# Altium footprint library SMD-Packages.PcbLib: 26 footprints (part 1 of 2)
Each footprint in its own frame and in the unit in brackets; x right, y up, seen from the top. Pads: shape width x height; smd on the part's side, far side on the other; paste and mask are expansions set on the pad; w line width, h text height; cw(c..) or ccw(c..) is an arc to the next point about the centre after c.
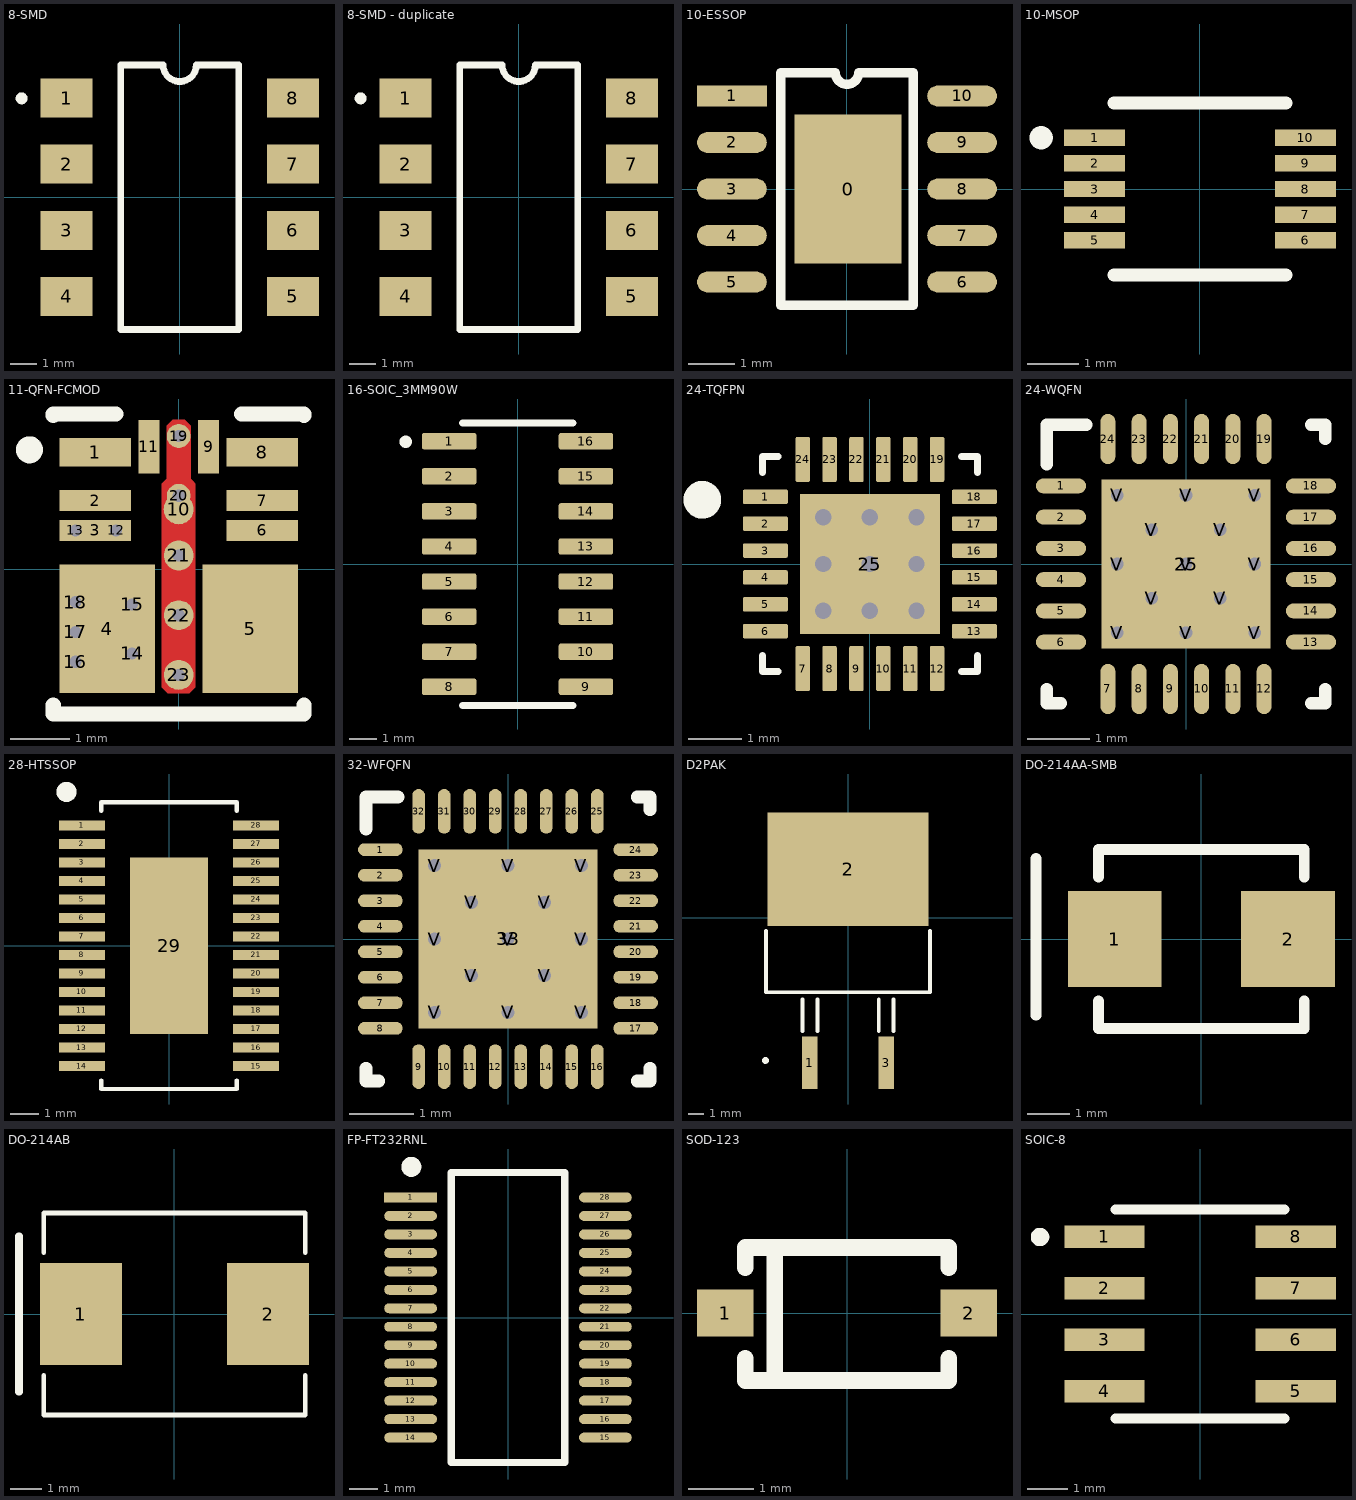
[diagram p0: the footprints below, top view; thin cyan lines are the x and y axes]

## 8-SMD [mm]
pads (8):
  rect 2x1.5 smd: 1(-4.35,3.81) 2(-4.35,1.27) 3(-4.35,-1.27) 4(-4.35,-3.81) 5(4.35,-3.81) 6(4.35,-1.27) 7(4.35,1.27) 8(4.35,3.81)
Top Overlay:
  circle w0.254: c-6.075,3.8 r0.1
  lines w0.254: -2.265,-5.08 -2.265,5.08 -0.635,5.08 ccw(c0,5.08) 0.635,5.08 2.265,5.08 2.265,-5.08 -2.265,-5.08
3D body "SMD DIP 8 (300) Avago.STEP": height 4.2, standoff 0, extent -4.825,-4.825 4.825,4.825

## 8-SMD - duplicate [mm]
pads (8):
  rect 2x1.5 smd: 1(-4.35,3.81) 2(-4.35,1.27) 3(-4.35,-1.27) 4(-4.35,-3.81) 5(4.35,-3.81) 6(4.35,-1.27) 7(4.35,1.27) 8(4.35,3.81)
Top Overlay:
  circle w0.254: c-6.075,3.8 r0.1
  lines w0.254: -2.265,-5.08 2.265,-5.08 2.265,5.08 0.635,5.08 cw(c0,5.08) -0.635,5.08 -2.265,5.08 -2.265,-5.08
3D body "SMD DIP 8 (300) Avago.STEP": height 4.2, standoff 0, extent -4.825,-4.825 4.825,4.825

## 10-ESSOP [mm]
pads (11):
  rect 2.3x3.2 smd: 0(0.025,0)
  rect 1.5x0.45 smd: 1(-2.475,2)
  oval 1.5x0.45 smd: 2(-2.475,1) 3(-2.475,0) 4(-2.475,-1) 5(-2.475,-2) 6(2.475,-2) 7(2.475,-1) 8(2.475,0) 9(2.475,1) 10(2.475,2)
Top Overlay:
  lines w0.2: -1.425,-2.5 -1.425,2.5 -0.25,2.5 ccw(c0,2.5) 0.25,2.5 1.425,2.5 1.425,-2.5 -1.425,-2.5
3D body "ESOP-10.STEP": height 1.63, standoff -0.03, extent -2.74,-2.45 2.74,2.45

## 10-MSOP [mil]
pads (10):
  rect 47x12.6 smd paste+0 mask+0: 1(-81,39.37) 2(-81,19.68) 3(-81,0) 4(-81,-19.68) 5(-81,-39.37) 6(81,-39.37) 7(81,-19.68) 8(81,0) 9(81,19.68) 10(81,39.37)
Top Overlay:
  circle w10: c-122.05,39.37 r3.94
  lines w10: -66,-66 66,-66 ; -66,66 66,66
3D body "AD5170BRMZ100-ND_MOD.STEP": height 38.39, standoff -0.98, extent -96.99,-59.06 96.99,59.06

## 11-QFN-FCMOD [mm]
pads (23):
  rect 1.2x0.475 smd paste-0.587 mask-0.584: 1(-1.4,1.962) 8(1.4,1.962)
  rect 1.2x0.35 smd paste-0.587 mask-0.584: 2(-1.4,1.15) 3(-1.4,0.65) 6(1.4,0.65) 7(1.4,1.15)
  rect 1.6x2.15 smd paste-1.062 mask-1.067: 4(-1.2,-1) 5(1.2,-1)
  rect 0.35x0.9 smd paste-0.437 mask-0.432: 9(0.5,2.05) 11(-0.5,2.05)
  round 0.504 smd paste-0.239 mask-0.241: 10(0,1.005)
  round 0.35 / inner round 1.524 / far side round 0.35 hole 0.203 paste-2539.97 mask-0.165: 12(-1.05,0.65) 13(-1.73,0.65)
  round 0.5 / inner round 1.524 / far side round 0.5 hole 0.203 paste-2539.97 mask-0.241: 14(-0.78,-1.41) 15(-0.78,-0.59) 16(-1.73,-1.55) 17(-1.73,-1.05) 18(-1.73,-0.55) 21(0,0.23) 22(0,-0.77) 23(0,-1.77)
  round 0.4 / inner round 1.524 / far side round 0.4 hole 0.203 paste-2539.97 mask-0.191: 19(0,2.23) 20(0,1.23)
Top Layer:
  region: -0.2,1.515 -0.2,2.4 -0.1,2.5 0.1,2.5 0.2,2.4 0.2,1.515 0.24,1.475 0.28,1.435 0.28,-1.975 0.18,-2.075 -0.18,-2.075 -0.28,-1.975 -0.28,1.435 -0.24,1.475
Top Overlay:
  circle w0.254: c-2.5,2 r0.1
  lines w0.254: -2.1,-2.275 -2.1,-2.425 2.1,-2.425 2.1,-2.275 ; -2.1,2.575 -2.1,2.6 -1.05,2.6 ; 1.05,2.6 2.1,2.6 2.1,2.575
Top Paste:
  drawing of 23 lines, arcs and shapes, not listed
Top Solder:
  drawing of 11 lines, arcs and shapes, not listed
3D body "RDN0011A_MOD.STEP": height 1.93, standoff 0.03, extent -1.75,-2.25 1.75,2.25

## 16-SOIC_3MM90W [mm]
pads (16):
  rrect25% 1.97x0.59 smd: 1(-2.475,4.445) 2(-2.475,3.175) 3(-2.475,1.905) 4(-2.475,0.635) 5(-2.475,-0.635) 6(-2.475,-1.905) 7(-2.475,-3.175) 8(-2.475,-4.445) 9(2.475,-4.445) 10(2.475,-3.175) 11(2.475,-1.905) 12(2.475,-0.635) 13(2.475,0.635) 14(2.475,1.905) 15(2.475,3.175) 16(2.475,4.445)
Top Overlay:
  circle w0.254: c-4.05,4.425 r0.1
  lines w0.254: -2,-5.125 2,-5.125 ; -2,5.1 2,5.1
3D body "step_temp.STEP": height 1.75, standoff 0, extent -3,-4.95 3,4.95

## 24-TQFPN [mm]
height 1.1
pads (25):
  rrect25% 0.84x0.27 smd: 1(-1.945,1.25) 2(-1.945,0.75) 3(-1.945,0.25) 4(-1.945,-0.25) 5(-1.945,-0.75) 6(-1.945,-1.25) 13(1.945,-1.25) 14(1.945,-0.75) 15(1.945,-0.25) 16(1.945,0.25) 17(1.945,0.75) 18(1.945,1.25)
  rrect25% 0.27x0.84 smd: 7(-1.25,-1.945) 8(-0.75,-1.945) 9(-0.25,-1.945) 10(0.25,-1.945) 11(0.75,-1.945) 12(1.25,-1.945) 19(1.25,1.945) 20(0.75,1.945) 21(0.25,1.945) 22(-0.25,1.945) 23(-0.75,1.945) 24(-1.25,1.945)
  rect 2.6x2.6 smd paste-0.48: 25(0,0)
via 0,0 diameter 0.61 hole 0.305
via 0.867,0 diameter 0.61 hole 0.305
via -0.867,0 diameter 0.61 hole 0.305
via -0.867,-0.867 diameter 0.61 hole 0.305
via 0.867,-0.867 diameter 0.61 hole 0.305
via -0.867,0.867 diameter 0.61 hole 0.305
via 0.867,0.867 diameter 0.61 hole 0.305
via 0,-0.867 diameter 0.61 hole 0.305
via 0,0.867 diameter 0.61 hole 0.305
Top Overlay:
  circle w0.5: c-3.117,1.195 r0.1
  lines w0.127: -2,-1.705 -2,-2 -1.705,-2 ; -2,1.705 -2,2 -1.705,2 ; 1.705,-2 2,-2 2,-1.705 ; 1.705,2 2,2 2,1.705
3D body "step_temp.STEP": height 1.1, standoff 0, extent -2,-2 2,2

## 24-WQFN [mm]
pads (38):
  oval 0.8x0.24 smd paste+0 mask+0.051: 1(-2,1.25) 2(-2,0.75) 3(-2,0.25) 4(-2,-0.25) 5(-2,-0.75) 6(-2,-1.25) 13(2,-1.25) 14(2,-0.75) 15(2,-0.25) 16(2,0.25) 17(2,0.75) 18(2,1.25)
  oval 0.24x0.8 smd paste+0 mask+0.051: 7(-1.25,-2) 8(-0.75,-2) 9(-0.25,-2) 10(0.25,-2) 11(0.75,-2) 12(1.25,-2) 19(1.25,2) 20(0.75,2) 21(0.25,2) 22(-0.25,2) 23(-0.75,2) 24(-1.25,2)
  rect 2.7x2.7 smd paste-1.337 mask+0.051: 25(0,0)
  round 0.5 / inner round 1.524 / far side round 0.5 hole 0.203 paste-2539.97 mask+0.051: V(-1.1,-1.1) V(-1.1,0) V(-1.1,1.1) V(-0.55,-0.55) V(-0.55,0.55) V(0,-1.1) V(0,0) V(0,1.1) V(0.55,-0.55) V(0.55,0.55) V(1.1,-1.1) V(1.1,0) V(1.1,1.1)
Top Overlay:
  lines w0.2: -2.225,-2 -2.225,-2.225 -2,-2.225 ; -2.225,1.6 -2.225,2.225 -1.6,2.225 ; 2,-2.225 2.225,-2.225 2.225,-2 ; 2,2.225 2.225,2.225 2.225,2
Top Paste:
  region: 0.1,-0.1 0.1,-1.288 1.288,-1.288 1.288,-0.1
  region: -0.1,-1.288 -0.1,-0.1 -1.288,-0.1 -1.288,-1.288
  region: -0.1,0.1 -0.1,1.288 -1.288,1.288 -1.288,0.1
  region: 0.1,1.288 0.1,0.1 1.288,0.1 1.288,1.288
3D body "QFN50P400X400X80-25N.step": height 0.8, standoff 0, extent -2,-2 2,2

## 28-HTSSOP [mil]
pads (29):
  rect 63.5x14 smd paste+0 mask+0: 1(-120.25,166.34) 2(-120.25,140.75) 3(-120.25,115.16) 4(-120.25,89.56) 5(-120.25,63.98) 6(-120.25,38.38) 7(-120.25,12.79) 8(-120.25,-12.79) 9(-120.25,-38.38) 10(-120.25,-63.98) 11(-120.25,-89.56) 12(-120.25,-115.16) 13(-120.25,-140.75) 14(-120.25,-166.34) 15(120.25,-166.34) 16(120.25,-140.75) 17(120.25,-115.16) 18(120.25,-89.56) 19(120.25,-63.98) 20(120.25,-38.38) 21(120.25,-12.79) 22(120.25,12.79) 23(120.25,38.38) 24(120.25,63.98) 25(120.25,89.56) 26(120.25,115.16) 27(120.25,140.75) 28(120.25,166.34)
  rect 108x244 smd paste-121.5 mask+0: 29(0,0)
Top Overlay:
  circle w19.68: c-141.73,212.6 r3.94
  lines w6: -93.5,-186.44 -93.5,-198 93.5,-198 93.5,-186.44 ; -93.5,186.44 -93.5,198 93.5,198 93.5,186.44
Top Paste:
  region: -3.94,118.06 -50.06,118.06 -50.06,64.94 -3.94,64.94
  region: -3.94,57.06 -50.06,57.06 -50.06,3.94 -3.94,3.94
  region: -3.94,-3.94 -50.06,-3.94 -50.06,-57.06 -3.94,-57.06
  region: -3.94,-64.94 -50.06,-64.94 -50.06,-118.06 -3.94,-118.06
  region: 50.06,118.06 3.94,118.06 3.94,64.94 50.06,64.94
  region: 50.06,57.06 3.94,57.06 3.94,3.94 50.06,3.94
  region: 50.06,-3.94 3.94,-3.94 3.94,-57.06 50.06,-57.06
  region: 50.06,-64.94 3.94,-64.94 3.94,-118.06 50.06,-118.06
3D body "HTSSOP_26-MOD.STEP": height 47.09, standoff -2.01, extent -130,-192.99 130,192.99

## 32-WFQFN [mm]
pads (46):
  oval 0.7x0.2 smd paste+0 mask+0.051: 1(-2,1.4) 2(-2,1) 3(-2,0.6) 4(-2,0.2) 5(-2,-0.2) 6(-2,-0.6) 7(-2,-1) 8(-2,-1.4) 17(2,-1.4) 18(2,-1) 19(2,-0.6) 20(2,-0.2) 21(2,0.2) 22(2,0.6) 23(2,1) 24(2,1.4)
  oval 0.2x0.7 smd paste+0 mask+0.051: 9(-1.4,-2) 10(-1,-2) 11(-0.6,-2) 12(-0.2,-2) 13(0.2,-2) 14(0.6,-2) 15(1,-2) 16(1.4,-2) 25(1.4,2) 26(1,2) 27(0.6,2) 28(0.2,2) 29(-0.2,2) 30(-0.6,2) 31(-1,2) 32(-1.4,2)
  rect 2.8x2.8 smd paste-1.387 mask+0.051: 33(0,0)
  round 0.5 / inner round 1.524 / far side round 0.5 hole 0.203 paste-2539.97 mask+0.051: V(-1.15,-1.15) V(-1.15,0) V(-1.15,1.15) V(-0.575,-0.575) V(-0.575,0.575) V(0,-1.15) V(0,0) V(0,1.15) V(0.575,-0.575) V(0.575,0.575) V(1.15,-1.15) V(1.15,0) V(1.15,1.15)
Top Overlay:
  lines w0.2: -2.225,-2.025 -2.225,-2.225 -2.025,-2.225 ; -2.225,1.725 -2.225,2.225 -1.725,2.225 ; 2.025,-2.225 2.225,-2.225 2.225,-2.025 ; 2.025,2.225 2.225,2.225 2.225,2.025
Top Paste:
  region: 0.1,-0.1 0.1,-1.37 1.37,-1.37 1.37,-0.1
  region: -0.1,-1.37 -0.1,-0.1 -1.37,-0.1 -1.37,-1.37
  region: -0.1,0.1 -0.1,1.37 -1.37,1.37 -1.37,0.1
  region: 0.1,1.37 0.1,0.1 1.37,0.1 1.37,1.37
3D body "BQ25703ARSNR.step": height 0.8, standoff 0, extent -2,-2 2,2

## D2PAK [mil]
pads (3):
  rect 41x138 smd paste+0 mask+0: 1(-100,-380) 3(100,-380)
  rect 422x298 smd paste+0 mask+0: 2(0,127)
Top Overlay:
  circle w10: c-216.54,-374.02 r3.94
  lines w10: -215,-34.47 -215,-195 215,-195 215,-34.47 ; -119.5,-297 -119.5,-214 ; -80.5,-297 -80.5,-214 ; 80.5,-297 80.5,-214 ; 119.5,-297 119.5,-214
3D body "IRF4905STRLPBF.step": height 190, standoff -4.94, extent -200,-378.74 200,221.26

## DO-214AA-SMB [mil]
pads (2):
  rect 87x89 smd paste+0 mask+0: 1(-80.5,0) 2(80.5,0)
Top Overlay:
  lines w10: -153.54,-70.87 -153.54,74.8 ; -95.5,-57.6 -95.5,-83 95.5,-83 95.5,-57.6 ; -95.5,57.6 -95.5,83 95.5,83 95.5,57.6
3D body "STPS340U.step": height 104.33, standoff 0, extent -105.31,-71.36 105.31,71.36

## DO-214AB [mil]
pads (2):
  rect 104x129 smd paste+0 mask+0: 1(-118.5,0) 2(118.5,0)
Top Overlay:
  lines w6: -165.5,-77.6 -165.5,-128 165.5,-128 165.5,-77.6 ; -165.5,77.6 -165.5,128 165.5,128 165.5,77.6
  lines w10: -196.85,-98.43 -196.85,98.43
3D body "SS36-MOD.STEP": height 104.49, standoff 0, extent -156.5,-116.14 156.5,116.14

## FP-FT232RNL [mm]
pads (28):
  rect 1.855x0.35 smd paste+0 mask+0: 1(-3.426,4.225)
  rrect100% 1.855x0.35 smd paste+0 mask+0: 2(-3.426,3.575) 3(-3.426,2.925) 4(-3.426,2.275) 5(-3.426,1.625) 6(-3.426,0.975) 7(-3.426,0.325) 8(-3.426,-0.325) 9(-3.426,-0.975) 10(-3.426,-1.625) 11(-3.426,-2.275) 12(-3.426,-2.925) 13(-3.426,-3.575) 14(-3.426,-4.225) 15(3.426,-4.225) 16(3.426,-3.575) 17(3.426,-2.925) 18(3.426,-2.275) 19(3.426,-1.625) 20(3.426,-0.975) 21(3.426,-0.325) 22(3.426,0.325) 23(3.426,0.975) 24(3.426,1.625) 25(3.426,2.275) 26(3.426,2.925) 27(3.426,3.575) 28(3.426,4.225)
Top Overlay:
  circle w0.5: c-3.4,5.3 r0.1
  lines w0.254: -1.998,-5.1 1.998,-5.1 1.998,5.1 -1.998,5.1 -1.998,-5.1
3D body "IC_FTDI_FT232RNL-REEL_eec-BLK.STEP": height 2, standoff 0, extent -3.9,-5.1 3.9,5.1

## SOD-123 [mil]
pads (2):
  rect 34x28 smd paste+0 mask+0: 1(-73,0) 2(73,0)
Top Overlay:
  lines w10: -61,-27.1 -61,-40.5 61,-40.5 61,-27.1 ; -61,27.1 -61,39.37 61,39.37 61,27.1 ; -43.31,-38.39 -43.31,37.4
3D body "1N4148W-MOD.STEP": height 59.92, standoff -0.44, extent -71.85,-30.51 71.85,30.51

## SOIC-8 [mil]
pads (8):
  rect 78x22 smd paste+0 mask+0: 1(-93,75) 2(-93,25) 3(-93,-25) 4(-93,-75) 5(93,-75) 6(93,-25) 7(93,25) 8(93,75)
Top Overlay:
  circle w10: c-155.51,74.8 r3.94
  lines w10: -82,-101.5 82,-101.5 ; -82,101.5 82,101.5
3D body "User Library-so8-3.step": height 66.93, standoff 0, extent -118.11,-96.46 118.11,96.46